# Altium footprint library PIN_PROGRAM.PcbLib: 1 footprints
Each footprint in its own frame and in the unit in brackets; x right, y up, seen from the top. Pads: shape width x height; smd on the part's side, far side on the other; paste and mask are expansions set on the pad; w line width, h text height; cw(c..) or ccw(c..) is an arc to the next point about the centre after c.
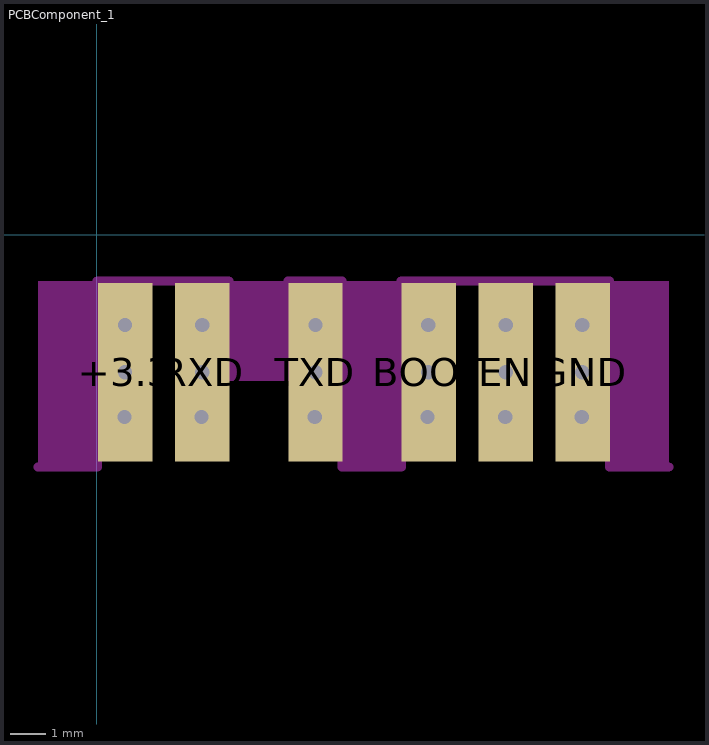
[diagram p0: the footprint, top view; thin cyan lines are the x and y axes]

## PCBComponent_1 [mm]
pads (24):
  round 0 hole 0.4: 47(0.774,-5.113) 47(0.791,-3.86) 47(0.791,-2.532) 47(2.933,-5.113) 47(2.95,-3.86) 47(2.95,-2.532) 47(6.108,-5.113) 47(6.125,-3.86) 47(6.125,-2.532) 47(9.266,-5.113) 47(9.283,-3.86) 47(9.283,-2.532) 47(11.442,-5.113) 47(11.459,-3.86) 47(11.459,-2.532) 47(13.584,-5.113) 47(13.601,-3.86) 47(13.601,-2.532)
  rect 1.524x5 all layers, no hole: +3.3(0.791,-3.86) BOOT(9.3,-3.86) EN(11.459,-3.86) GND(13.618,-3.86) RXD(2.95,-3.86) TXD(6.125,-3.86)
Keep-Out Layer:
  board cut-out: 16.022,-1.303 16.022,-6.511 14.363,-6.511 14.363,-1.303
  board cut-out: 8.529,-1.303 8.529,-6.511 6.87,-6.511 6.87,-1.303
  board cut-out: 5.354,-1.303 5.354,-3.97 3.695,-3.97 3.695,-1.303
  board cut-out: 0.012,-1.303 0.012,-6.511 -1.647,-6.511 -1.647,-1.303
Keep-Out Layer:
  lines w0.254: -1.647,-6.511 0.012,-6.511 0.012,-1.303 3.695,-1.303 3.695,-3.97 5.354,-3.97 5.354,-1.303 6.87,-1.303 6.87,-6.511 8.529,-6.511 8.529,-1.303 14.363,-1.303 14.363,-6.511 16.022,-6.511